# Altium footprint library Abracon.PcbLib: 2 footprints
Each footprint in its own frame and in the unit in brackets; x right, y up, seen from the top. Pads: shape width x height; smd on the part's side, far side on the other; paste and mask are expansions set on the pad; w line width, h text height; cw(c..) or ccw(c..) is an arc to the next point about the centre after c.
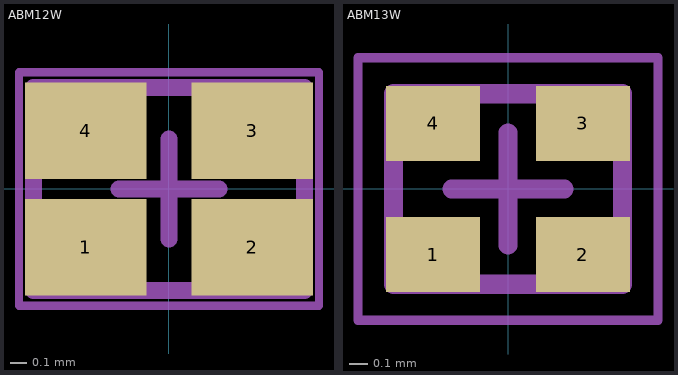
[diagram p0: the footprints below, top view; thin cyan lines are the x and y axes]

## ABM12W [mm]
pads (4):
  rect 0.73x0.58 smd paste-0.06 mask+0.07: 1(-0.5,-0.35) 2(0.5,-0.35) 3(0.5,0.35) 4(-0.5,0.35)
Mechanical 13:
  lines w0.102: -0.813,-0.61 -0.813,0.61 0.813,0.61 0.813,-0.61 -0.813,-0.61
Mechanical 15:
  lines w0.05: -0.9,-0.7 0.9,-0.7 0.9,0.7 -0.9,0.7 -0.9,-0.7
  lines w0.1: -0.3,0 0.3,0 ; 0,-0.3 0,0.3
3D body "ABM12W.STEP": height 0.4, standoff 0, extent -0.8,-0.6 0.8,0.6

## ABM13W [mm]
pads (4):
  rect 0.5x0.4 smd paste-0.06 mask+0.07: 1(-0.4,-0.35) 2(0.4,-0.35) 3(0.4,0.35) 4(-0.4,0.35)
Mechanical 13:
  lines w0.102: -0.61,-0.508 0.61,-0.508 0.61,0.508 -0.61,0.508 -0.61,-0.508
Mechanical 15:
  lines w0.05: -0.8,-0.7 -0.8,0.7 0.8,0.7 0.8,-0.7 -0.8,-0.7
  lines w0.1: -0.3,0 0.3,0 ; 0,-0.3 0,0.3
3D body "ABM13W.STEP": height 0.28, standoff 0, extent -0.6,-0.5 0.6,0.5